# EAGLE library part IC-PIC-18P-18F2220,2320- (library mylib)
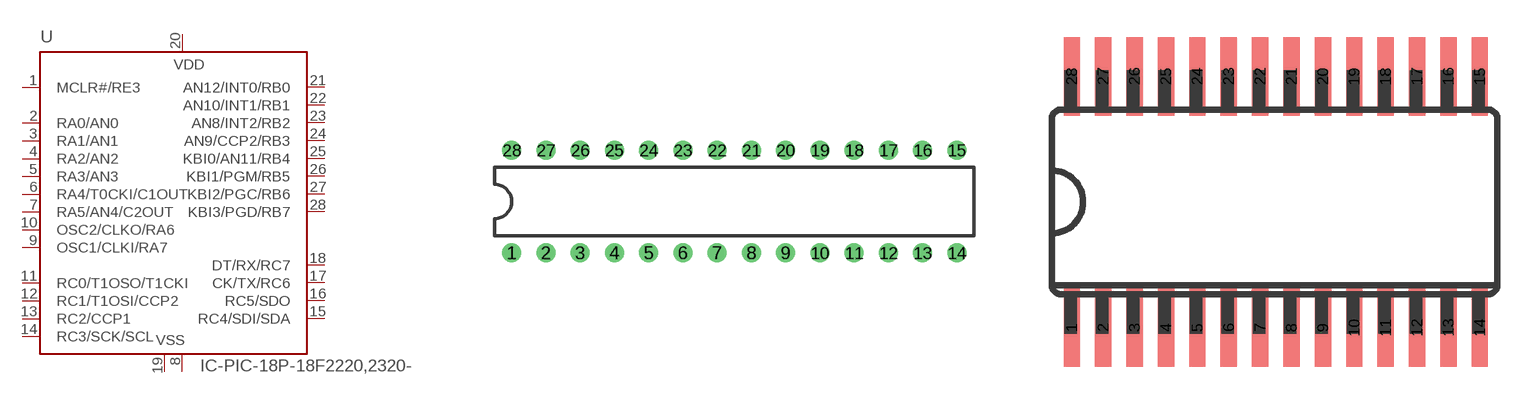
[diagram p32: symbol with the pads of IC-SOCKET-DIL-28-300MIL; footprints IC-SOCKET-DIL-28-300MIL, IC-28-1.27-300MIL]

Designator prefix U

## IC-PIC-18P-18F2220,2320-DIP  [IC-SOCKET-DIL-28-300MIL]
1  MCLR#/RE3  in
2  RA0/AN0
3  RA1/AN1
4  RA2/AN2
5  RA3/AN3
6  RA4/T0CKI/C1OUT
7  RA5/AN4/C2OUT
8  VSS  pwr
9  OSC1/CLKI/RA7
10  OSC2/CLKO/RA6
11  RC0/T1OSO/T1CKI
12  RC1/T1OSI/CCP2
13  RC2/CCP1
14  RC3/SCK/SCL
15  RC4/SDI/SDA
16  RC5/SDO
17  CK/TX/RC6
18  DT/RX/RC7
19  VSS1  pwr
20  VDD  pwr
21  AN12/INT0/RB0
22  AN10/INT1/RB1
23  AN8/INT2/RB2
24  AN9/CCP2/RB3
25  KBI0/AN11/RB4
26  KBI1/PGM/RB5
27  KBI2/PGC/RB6
28  KBI3/PGD/RB7

## IC-PIC-18P-18F2220,2320-SO  [IC-28-1.27-300MIL]
Pads as for IC-SOCKET-DIL-28-300MIL

## Footprint IC-SOCKET-DIL-28-300MIL (pad centres in mm)
Dual In Line package type P
drill 0.889: 1 -16.51,-3.81; 2 -13.97,-3.81; 3 -11.43,-3.81; 4 -8.89,-3.81; 5 -6.35,-3.81; 6 -3.81,-3.81; 7 -1.27,-3.81; 8 1.27,-3.81; 9 3.81,-3.81; 10 6.35,-3.81; 11 8.89,-3.81; 12 11.43,-3.81; 13 13.97,-3.81; 14 16.51,-3.81; 15 16.51,3.81; 16 13.97,3.81; 17 11.43,3.81; 18 8.89,3.81; 19 6.35,3.81; 20 3.81,3.81; 21 1.27,3.81; 22 -1.27,3.81; 23 -3.81,3.81; 24 -6.35,3.81; 25 -8.89,3.81; 26 -11.43,3.81; 27 -13.97,3.81; 28 -16.51,3.81

## Footprint IC-28-1.27-300MIL (pad centres in mm)
smd 0.66 x 3.175: 1 -7.569,-5.08; 2 -6.299,-5.08; 3 -5.029,-5.08; 4 -3.759,-5.08; 5 -2.489,-5.08; 6 -1.219,-5.08; 7 0.051,-5.08; 8 1.321,-5.08; 9 2.591,-5.08; 10 3.861,-5.08; 11 5.131,-5.08; 12 6.401,-5.08; 13 7.671,-5.08; 14 8.941,-5.08; 15 8.941,5.08; 16 7.671,5.08; 17 6.401,5.08; 18 5.131,5.08; 19 3.861,5.08; 20 2.591,5.08; 21 1.321,5.08; 22 0.051,5.08; 23 -1.219,5.08; 24 -2.489,5.08; 25 -3.759,5.08; 26 -5.029,5.08; 27 -6.299,5.08; 28 -7.569,5.08